# EAGLE library part ULTIMATE-GPS (library fruit-parts)
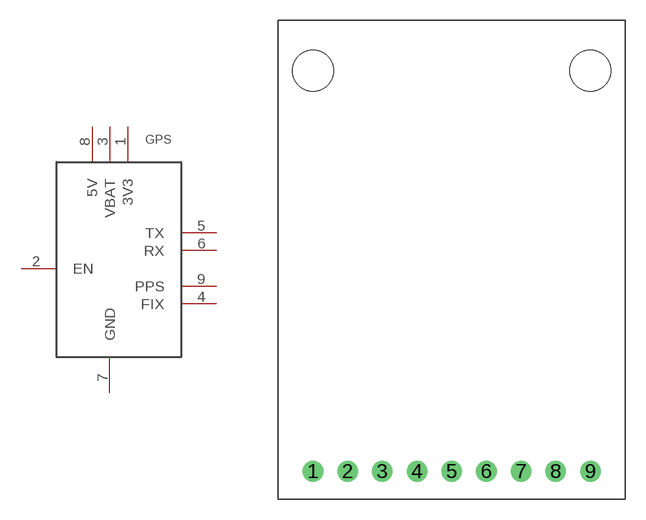
[diagram p4: symbol with the pads of ULTIMATE-GPS; footprint ULTIMATE-GPS]

Designator prefix GPS

## ULTIMATE-GPS  [ULTIMATE-GPS]
1  3V3  pwr
2  EN  in
3  VBAT  pwr
4  FIX  out
5  TX  out
6  RX  in
7  GND  pwr
8  5V  pwr
9  PPS  out

## Footprint ULTIMATE-GPS (pad centres in mm)
drill 1: 1 -10.16,-15.494; 2 -7.62,-15.494; 3 -5.08,-15.494; 4 -2.54,-15.494; 5 0,-15.494; 6 2.54,-15.494; 7 5.08,-15.494; 8 7.62,-15.494; 9 10.16,-15.494
hole 3 at -10.16,13.858
hole 3 at 10.16,13.858